# Altium footprint library PcbLib1.PcbLib: 1 footprints
Each footprint in its own frame and in the unit in brackets; x right, y up, seen from the top. Pads: shape width x height; smd on the part's side, far side on the other; paste and mask are expansions set on the pad; w line width, h text height; cw(c..) or ccw(c..) is an arc to the next point about the centre after c.
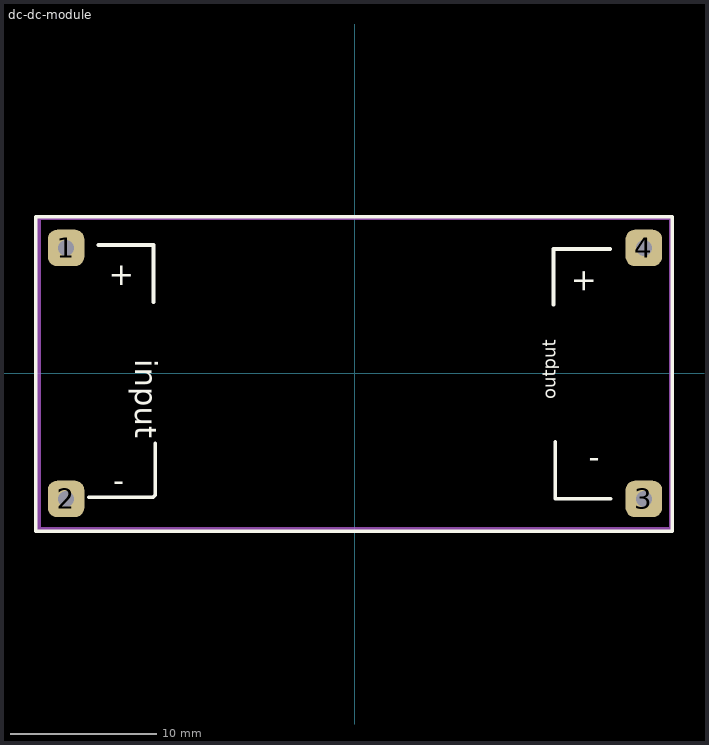
[diagram p0: the footprint, top view; thin cyan lines are the x and y axes]

## dc-dc-module [mm] "LM2596, power madoule"
height 13.5
pads (4):
  rrect50% 2.5x2.5 hole 1.1: 1(-19.8,8.6) 2(-19.8,-8.6) 3(19.8,-8.6) 4(19.8,8.6)
Top Overlay:
  lines w0.254: -18.237,-8.484 -13.843,-8.484 -13.691,-8.331 -13.691,-4.775 ; -17.6,8.8 -13.8,8.8 -13.8,4.902 ; 13.603,4.727 13.603,8.527 17.501,8.527 ; 13.724,-4.699 13.724,-8.597 17.524,-8.597 ; -21.869,-10.82 21.742,-10.82 21.742,10.744 -21.869,10.744 -21.869,-10.82
  text "output" at 14.055,-1.753 h1.52
  text "-" at 16.789,-5.334 h1.52
  text "+" at 16.358,5.461 h1.52
  text "+" at -16.866,6.045 h1.52
  text "-" at -16.561,-8.077 h1.52
  text "input" at -15.061,0.985 h1.52
Mechanical 1:
  lines w0.254: -21.65,-10.65 21.65,-10.65 21.65,10.65 -21.65,10.65 -21.65,-10.65
3D body "User Library-BULVACK LM2596 DC-DC 1_25V-30V 3A-1.STEP": height 13.45, standoff -0.15, extent -21.65,-10.65 21.65,10.65